# Altium schematic symbol library Schlib1.SchLib: 42 symbols (part 2 of 2)
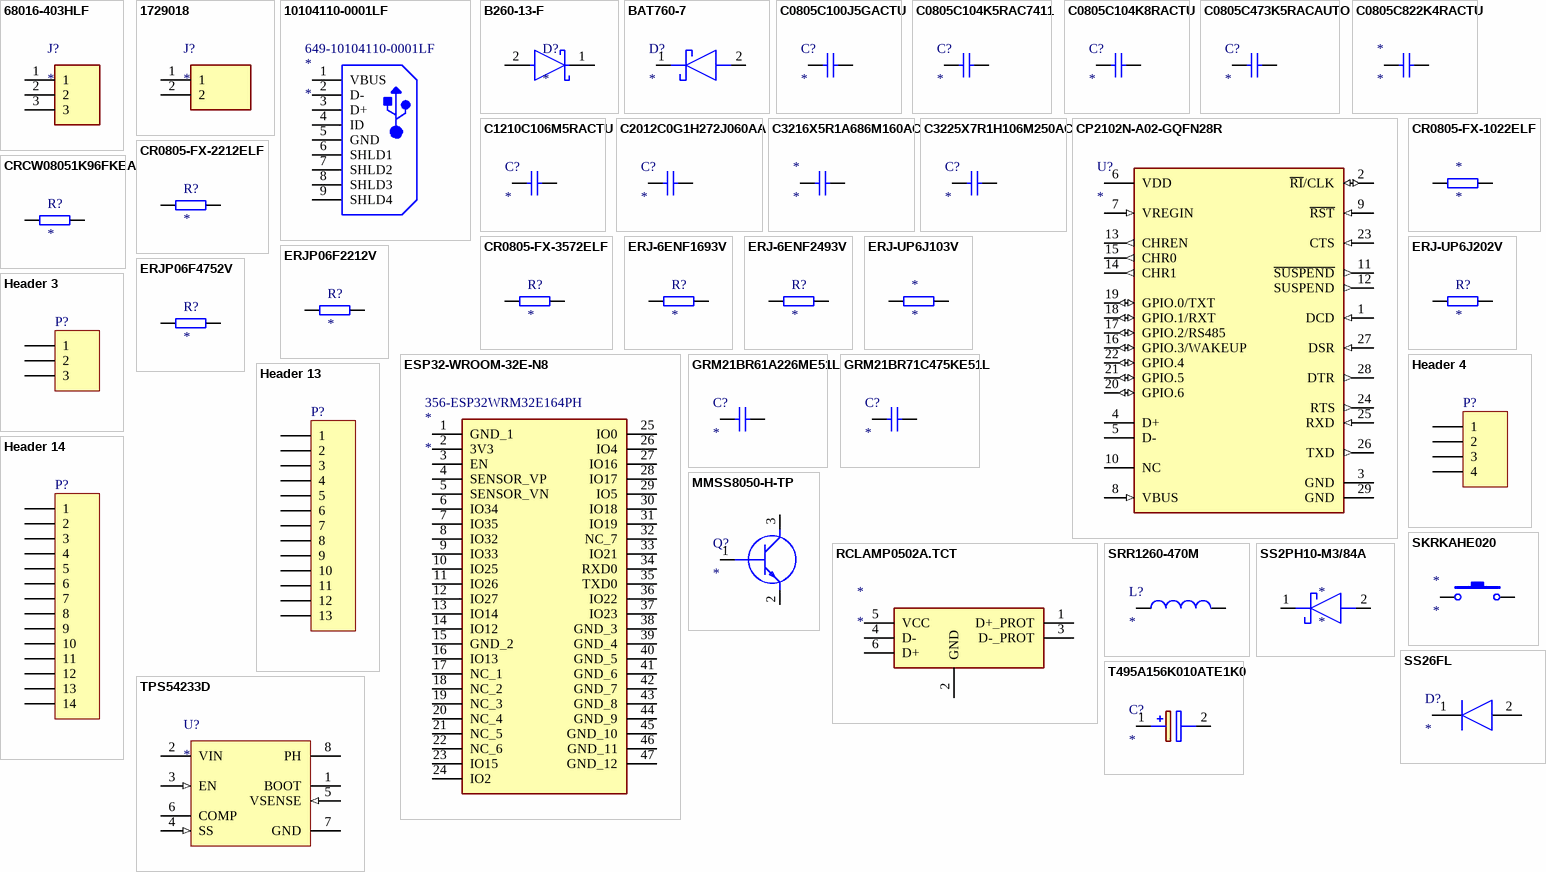
[diagram p2: symbols 68016-403HLF to TPS54233D]

## GRM21BR71C475KE51L
designator C?
Cap Ceramic 4.7uF 16V X7R 10% SMD 0805 125°C Embossed Plastic T/R; Manufacturer: Murata; Manufacturer Part Number: GRM21BR71C475KE51L; Supplier 1: Mouser; RoHS: Yes; Category: Ceramic Capacitors; Stock 1: 388295; Pricing 1: 1=0,19000, 10=0,13400, 50=0,13400, 100=0,06400, 500=0,04500, 1000=0,03700, 3000=0,03500, 6000=0,03300, 10000=0,03300 (USD); Case/Package: 0805; Capacitance: 4.7uF; Tolerance: 10%; Dielectric: X7R; Voltage Rating (DC): 16V; Length: 2mm; Width: 1.25mm; Thickness: 1.25mm; RoHS Compliant: Yes; ComponentLink1URL: http://www.farnell.com/datasheets/2189142.pdf?src-supplier=Farnell; ComponentLink1Description: http://www.farnell.com/datasheets/2189142.pdf?src-supplier=Farnell; ComponentLink2URL: http://search.murata.co.jp/Ceramy/image/img/A01X/G101/ENG/GRM21BR71C475KE51-01.pdf?src-supplier=Digi-Key; ComponentLink2Description: http://search.murata.co.jp/Ceramy/image/img/A01X/G101/ENG/GRM21BR71C475KE51-01.pdf?src-supplier=Digi-Key; Supplier Part Number 1: 81-GRM21BR71C475KE1L
footprint FP-GRM21B-0_15-IPC_A
footprint FP-GRM21B-0_15-IPC_B
footprint FP-GRM21B-0_15-IPC_C
footprint FP-GRM21B-0_15-MFG
pins: 1, 2

## Header 3
designator P?
Header, 3-Pin; LatestRevisionDate: 17-Jul-2002; LatestRevisionNote: Re-released for DXP Platform.; Publisher: Altium Limited
footprint HDR1X3 (Connector; Header; 3 Position)
pins: 1, 2, 3

## Header 4
designator P?
Header, 4-Pin; LatestRevisionDate: 17-Jul-2002; LatestRevisionNote: Re-released for DXP Platform.; Publisher: Altium Limited
footprint HDR1X4 (Connector; Header; 4 Position)
pins: 1, 2, 3, 4

## Header 13
designator P?
Header, 13-Pin; LatestRevisionDate: 17-Jul-2002; LatestRevisionNote: Re-released for DXP Platform.; Publisher: Altium Limited
footprint HDR1X13 (Connector; Header; 13 Position)
pins: 1, 2, 3, 4, 5, 6, 7, 8, 9, 10, 11, 12, 13

## Header 14
designator P?
Header, 14-Pin; LatestRevisionDate: 17-Jul-2002; LatestRevisionNote: Re-released for DXP Platform.; Publisher: Altium Limited
footprint HDR1X14 (Connector; Header; 14 Position)
pins: 1, 2, 3, 4, 5, 6, 7, 8, 9, 10, 11, 12, 13, 14

## MMSS8050-H-TP
designator Q?
NPN Ic=1.5A Vceo=25V hfe=120~350 fT=100MHz; Manufacturer: MCC; Manufacturer Part Number: MMSS8050-H-TP; hFE Min: 120; Max Power Dissipation: 625mW; Collector Emitter Voltage (VCEO): 500mV; Collector Base Voltage (VCBO): 40V; Emitter Base Voltage (VEBO): 5V; Max Collector Current: 1.5A; Collector Emitter Breakdown Voltage: 25V; Transition Frequency: 100MHz; Element Configuration: Single; Supplier 1: Mouser; RoHS: Yes; Category: BJTs; Stock 1: 426; Pricing 1: 1=0,21000, 10=0,17100, 50=0,17100, 100=0,09100, 500=0,06000, 1000=0,04100, 3000=0,03100, 10000=0,03100 (USD); Mount: Surface Mount; Case/Package: SOT-23; Number of Pins: 3; Min Operating Temperature: -55°C; Max Operating Temperature: 150°C; Packaging: Tape and Reel; Package Quantity: 3000; Polarity: NPN; Collector Emitter Saturation Voltage: 500mV; Max Breakdown Voltage: 25V; Gain Bandwidth Product: 100MHz; Collector-emitter Voltage-Max: 500mV; Series: -; Lead Free: Lead Free; RoHS Compliant: Yes; ComponentLink1URL: https://datasheet.ciiva.com/16291/mmss8050-255048-16291447.pdf?src-supplier=Mouser; ComponentLink1Description: https://datasheet.ciiva.com/16291/mmss8050-255048-16291447.pdf?src-supplier=Mouser; ComponentLink2URL: https://datasheet.ciiva.com/972/mmss8050sot-23-972894.pdf?src-supplier=Digi-Key; ComponentLink2Description: https://datasheet.ciiva.com/972/mmss8050sot-23-972894.pdf?src-supplier=Digi-Key; ComponentLink3URL: https://datasheet.ciiva.com/972/mmss8050sot-23-972895.pdf?src-supplier=Digi-Key; ComponentLink3Description: https://datasheet.ciiva.com/972/mmss8050sot-23-972895.pdf?src-supplier=Digi-Key; ComponentLink4URL: https://datasheet.ciiva.com/972/mmss8050sot-23-972893.pdf?src-supplier=Digi-Key; ComponentLink4Description: https://datasheet.ciiva.com/972/mmss8050sot-23-972893.pdf?src-supplier=Digi-Key; Supplier Part Number 1: 833-MMSS8050-H-TP
footprint SI2305TP
pins: 1 B, 2 E, 3 C

## RCLAMP0502A.TCT
designator *
TVS二极管 5V IPPM=3A 50W 单向; Manufacturer: Semtech; Manufacturer Part Number: RCLAMP0502A.TCT; Direction: Unidirectional; Capacitance: 0.9pF; Number of Channels: 2; Reverse Breakdown Voltage: 6V; Number of Elements: 1; Clamping Voltage: 18V; Power Line Protection: Yes; Peak Pulse Current: 3A; Test Current: 1mA; Max Reverse Leakage Current: 1uA; Element Configuration: Single; Supplier 1: Mouser; RoHS: Yes; Category: TVS Diodes; Stock 1: 213169; Pricing 1: 1=0,91000, 10=0,79900, 50=0,79900, 100=0,61300, 1000=0,38800, 10000=0,35000 (USD); Mount: Surface Mount; Case/Package: SC; Number of Pins: 6; Min Operating Temperature: -55°C; Max Operating Temperature: 125°C; Packaging: Tape and Reel; Number of Bidirectional Channels: 2; Reverse Standoff Voltage: 5V; Min Breakdown Voltage: 6V; Peak Pulse Power: 50W; Polarity: Unidirectional; Max Breakdown Voltage: 6V; ESD Protection: Yes; Max Power Dissipation: 50W; Leakage Current: 1uA; Current: 3A; Voltage: 5V; Series: RailClamp®; Clamping Voltage-Max: 18V; Length: 1.6mm; Width: 1.2mm; Height: 0.6mm; Radiation Hardening: No; Lead Free: Lead Free; RoHS Compliant: Yes; ComponentLink1URL: https://datasheet.ciiva.com/17052/0900766b80d896e8-17052765.pdf?src-supplier=Allied+Electronics; ComponentLink1Description: https://datasheet.ciiva.com/17052/0900766b80d896e8-17052765.pdf?src-supplier=Allied+Electronics; ComponentLink2URL: https://datasheet.ciiva.com/16208/rclamp0502a-16208898.pdf?src-supplier=Future+Electronics; ComponentLink2Description: https://datasheet.ciiva.com/16208/rclamp0502a-16208898.pdf?src-supplier=Future+Electronics; ComponentLink3URL: https://datasheet.ciiva.com/18065/getdatasheetpartid-185280-18065939.pdf?src-supplier=Verical; ComponentLink3Description: https://datasheet.ciiva.com/18065/getdatasheetpartid-185280-18065939.pdf?src-supplier=Verical; ComponentLink4URL: https://datasheet.ciiva.com/338/rclamp0502a-338509.pdf?src-supplier=Digi-Key; ComponentLink4Description: https://datasheet.ciiva.com/338/rclamp0502a-338509.pdf?src-supplier=Digi-Key; ComponentLink5URL: https://datasheet.ciiva.com/338/rclamp0502a-338510.pdf?src-supplier=Digi-Key; ComponentLink5Description: https://datasheet.ciiva.com/338/rclamp0502a-338510.pdf?src-supplier=Digi-Key; ComponentLink6URL: https://datasheet.ciiva.com/338/rclamp0502a-338508.pdf?src-supplier=Digi-Key; ComponentLink6Description: https://datasheet.ciiva.com/338/rclamp0502a-338508.pdf?src-supplier=Digi-Key; Supplier Part Number 1: 947-RCLAMP0502A.TCT
footprint SOTFL50P162X60-6N
pins: 1 D+_PROT, 2 GND, 3 D-_PROT, 4 D-, 5 VCC, 6 D+

## SKRKAHE020
designator *
Switch Tactile N.O. SPST Round Button Gull Wing 0.05A 12VDC 0.98N SMD T/R; Manufacturer: Alps Electric; Manufacturer Part Number: SKRKAHE020; Supplier 1: Mouser; RoHS: Yes; Category: Tactile Switches; Stock 1: 28067; Pricing 1: 1=0,76000, 10=0,67100, 50=0,60600, 100=0,57700, 1000=0,46700, 10000=0,45000 (USD); RoHS Compliant: Yes; Supplier Part Number 1: 688-SKRKAHE010
footprint SKRKAEE020
pins: 1, 2

## SRR1260-470M
designator L?
Inductor Power Shielded Wirewound 47uH 20% 100KHz 22Q-Factor Ferrite 2.6A 86mOhm DCR T/R; Manufacturer: Bourns; Manufacturer Part Number: SRR1260-470M; Material: Steel; Self Resonant Frequency: 7.63MHz; Saturation Current: 2.5A; DC Resistance (DCR): 86mR; Q Factor: 22; Supplier 1: Mouser; RoHS: Yes; Category: Fixed Inductors; Stock 1: 4692; Pricing 1: 1=1,36000, 10=1,02000, 50=1,02000, 100=0,91300, 1000=0,69900, 10000=0,52900 (USD); Mount: Surface Mount; Case/Package: 1260; Core Material: Ferrite; Min Operating Temperature: -40°C; Max Operating Temperature: 125°C; Tolerance: 20%; Inductance: 47uH; Max DC Current: 2.6A; Series: SRR1260; Inductance Tolerance: 20%; Packaging: Tape and Reel; Package Quantity: 600; Current Rating: 2.6A; Shielding: Shielded; Test Frequency: 100kHz; Termination: SMD/SMT; RMS Current (Irms): 2.6A; Resistor Type: Wirewound; DC Current: 2.6A; Frequency: 7.63MHz; Resistance: 86MR; Sample Rate (Hz): 100kHz; Length: 12.5mm; Width: 12.5mm; Height: 6mm; Depth: 12.8mm; Height - Seated (Max): 0.256inch; Radiation Hardening: No; RoHS Compliant: Yes; REACH SVHC: No SVHC; Military Standard: Not; ComponentLink1URL: https://datasheet.ciiva.com/11799/0900766b80defded-11799944.pdf?src-supplier=RSComponents; ComponentLink1Description: https://datasheet.ciiva.com/11799/0900766b80defded-11799944.pdf?src-supplier=RSComponents; ComponentLink2URL: https://datasheet.ciiva.com/1062/srr1260-1062578.pdf?src-supplier=Digi-Key; ComponentLink2Description: https://datasheet.ciiva.com/1062/srr1260-1062578.pdf?src-supplier=Digi-Key; ComponentLink3URL: https://datasheet.ciiva.com/1062/srr1260-1062579.pdf?src-supplier=Digi-Key; ComponentLink3Description: https://datasheet.ciiva.com/1062/srr1260-1062579.pdf?src-supplier=Digi-Key; ComponentLink4URL: https://datasheet.ciiva.com/1062/srr1260-1062580.pdf?src-supplier=Digi-Key; ComponentLink4Description: https://datasheet.ciiva.com/1062/srr1260-1062580.pdf?src-supplier=Digi-Key; ComponentLink5URL: https://datasheet.ciiva.com/8517/srr1260-8517158.pdf?src-supplier=Avnet; ComponentLink5Description: https://datasheet.ciiva.com/8517/srr1260-8517158.pdf?src-supplier=Avnet; ComponentLink6URL: https://datasheet.ciiva.com/17111/70277056-17111735.pdf?src-supplier=Allied+Electronics; ComponentLink6Description: https://datasheet.ciiva.com/17111/70277056-17111735.pdf?src-supplier=Allied+Electronics; ComponentLink7URL: https://datasheet.ciiva.com/46384/1430852-46384136.pdf?src-supplier=Element14; ComponentLink7Description: https://datasheet.ciiva.com/46384/1430852-46384136.pdf?src-supplier=Element14; ComponentLink8URL: https://datasheet.ciiva.com/6161/1430852-6161177.pdf?src-supplier=Farnell; ComponentLink8Description: https://datasheet.ciiva.com/6161/1430852-6161177.pdf?src-supplier=Farnell; ComponentLink9URL: https://datasheet.ciiva.com/7849/1430852-7849786.pdf?src-supplier=Element14; ComponentLink9Description: https://datasheet.ciiva.com/7849/1430852-7849786.pdf?src-supplier=Element14; ComponentLink10URL: https://datasheet.ciiva.com/48684/srr1260-48684894.pdf?src-supplier=Avnet; ComponentLink10Description: https://datasheet.ciiva.com/48684/srr1260-48684894.pdf?src-supplier=Avnet; ComponentLink11URL: https://datasheet.ciiva.com/7307/1914016-7307759.pdf?src-supplier=Newark; ComponentLink11Description: https://datasheet.ciiva.com/7307/1914016-7307759.pdf?src-supplier=Newark; ComponentLink12URL: https://datasheet.ciiva.com/48690/001056651-da-01-en-mag-abge-l-ind-srr1260-470m-47uh-2-6a-48690779.pdf?src-supplier=Conrad; ComponentLink12Description: https://datasheet.ciiva.com/48690/001056651-da-01-en-mag-abge-l-ind-srr1260-470m-47uh-2-6a-48690779.pdf?src-supplier=Conrad; Supplier Part Number 1: 652-SRR1260-470M
footprint SRR1260470M
pins: 1, 2

## SS2PH10-M3/84A
designator *
DIODE SCHOTTKY 100V 2A DO220AA; Manufacturer: Vishay; Manufacturer Part Number: SS2PH10-M3/84A; Max Reverse Current: 1uA; Peak Non-Repetitive Surge Current: 50A; Element Configuration: Single; Forward Voltage: 800mV; Supplier 1: Mouser; RoHS: Yes; Category: Rectifier Diodes; Stock 1: 5780; Pricing 1: 1=0,48000, 10=0,39800, 50=0,39800, 100=0,27100, 1000=0,15300, 10000=0,13900 (USD); Mount: Surface Mount; Case/Package: DO-220AA; Number of Pins: 2; Contact Plating: Tin,Matte; Min Operating Temperature: -55°C; Max Operating Temperature: 175°C; Packaging: Tape and Reel; Forward Current: 2A; Package Quantity: 1; Average Rectified Current: 2A; Max Repetitive Reverse Voltage (Vrrm): 100V; Max Reverse Voltage (DC): 100V; Max Surge Current: 50A; Max Forward Surge Current (Ifsm): 50A; Series: eSMP®; Radiation Hardening: No; REACH SVHC: Unknown; RoHS Compliant: Yes; Lead Free: Lead Free; ComponentLink1URL: https://datasheet.ciiva.com/18567/ss2ph920&20ss2ph10-18567489.pdf?src-supplier=Digi-Key; ComponentLink1Description: https://datasheet.ciiva.com/18567/ss2ph920&20ss2ph10-18567489.pdf?src-supplier=Digi-Key; ComponentLink2URL: https://datasheet.ciiva.com/7962/ss2ph9-7962425.pdf?src-supplier=Element14; ComponentLink2Description: https://datasheet.ciiva.com/7962/ss2ph9-7962425.pdf?src-supplier=Element14; ComponentLink3URL: https://datasheet.ciiva.com/22695/1911775-22695932.pdf?src-supplier=Element14; ComponentLink3Description: https://datasheet.ciiva.com/22695/1911775-22695932.pdf?src-supplier=Element14; ComponentLink4URL: https://datasheet.ciiva.com/8289/ss2ph9-8289129.pdf?src-supplier=Avnet; ComponentLink4Description: https://datasheet.ciiva.com/8289/ss2ph9-8289129.pdf?src-supplier=Avnet; ComponentLink5URL: https://datasheet.ciiva.com/13948/ss2ph9-13948536.pdf?src-supplier=Digi-Key; ComponentLink5Description: https://datasheet.ciiva.com/13948/ss2ph9-13948536.pdf?src-supplier=Digi-Key; ComponentLink6URL: https://datasheet.ciiva.com/15045/ss2ph9ss2ph10-15045638.pdf?src-supplier=Digi-Key; ComponentLink6Description: https://datasheet.ciiva.com/15045/ss2ph9ss2ph10-15045638.pdf?src-supplier=Digi-Key; Supplier Part Number 1: 625-SS2PH10-M3
footprint DO-220AA
pins: 1 K, 2 A

## SS26FL
designator D?
Diode Schottky Barrier Rectifier 60V 2A 2-Pin SOD-123F T/R; Manufacturer: ON Semiconductor / Fairchild; Manufacturer Part Number: SS26FL; Reverse Recovery Time: 8.26ns; Element Configuration: Single; Max Forward Surge Current (Ifsm): 50A; Supplier 1: Mouser; RoHS: Yes; Category: Rectifier Diodes; Stock 1: 8320; Pricing 1: 1=0,38000, 10=0,31100, 50=0,31100, 100=0,21200, 1000=0,11900, 10000=0,09500 (USD); Mount: Surface Mount; Case/Package: SOD; Weight: 0.0276g; Packaging: Tape and Reel; Average Rectified Current: 2A; Max Repetitive Reverse Voltage (Vrrm): 60V; Max Reverse Voltage (DC): 60V; RoHS Compliant: Yes; ComponentLink1URL: http://www.farnell.com/datasheets/2552652.pdf?src-supplier=Farnell; ComponentLink1Description: http://www.farnell.com/datasheets/2552652.pdf?src-supplier=Farnell; ComponentLink2URL: http://www.farnell.com/datasheets/2552652.pdf?src-supplier=Element14; ComponentLink2Description: http://www.farnell.com/datasheets/2552652.pdf?src-supplier=Element14; ComponentLink3URL: https://www.fairchildsemi.com/datasheets/SS/SS24FL.pdf?src-supplier=Digi-Key; ComponentLink3Description: https://www.fairchildsemi.com/datasheets/SS/SS24FL.pdf?src-supplier=Digi-Key; ComponentLink4URL: http://www.farnell.com/datasheets/2552652.pdf?src-supplier=Newark; ComponentLink4Description: http://www.farnell.com/datasheets/2552652.pdf?src-supplier=Newark; Supplier Part Number 1: 512-SS26FL
footprint SODFL3617X108N
pins: 1 K, 2 A

## T495A156K010ATE1K0
designator C?
Cap Tant Solid 15uF 10V A CASE 10% (3.2 X 1.6 X 1.6mm) Inward L SMD 3216-18 1 Ohm 125C Automotive T/R; Manufacturer: KEMET; Manufacturer Part Number: T495A156K010ATE1K0; ESR (Equivalent Series Resistance): 1R; Life (Hours): 2000Hour; Supplier 1: Mouser; RoHS: Yes; Category: Tantalum Capacitors; Stock 1: 278; Pricing 1: 1=0,73000, 10=0,59100, 50=0,44700, 100=0,38900, 1000=0,30900, 10000=0,28100 (USD); Mount: Surface Mount; Case/Package: 1206; Case Code (Metric): 3216; Case Code (Imperial): 1206; Min Operating Temperature: -55°C; Max Operating Temperature: 125°C; Package Quantity: 2000; Packaging: Tape and Reel; Capacitance: 15uF; Tolerance: 10%; Voltage Rating: 10V; Features: General Purpose; Length: 0.126inch; Width: 0.063inch; Height - Seated (Max): 0.071inch; RoHS Compliant: Yes; ComponentLink1URL: http://www.kemet.com/docfinder?Partnumber=T495A156K010ATE1K0&src-supplier=Digi-Key; ComponentLink1Description: http://www.kemet.com/docfinder?Partnumber=T495A156K010ATE1K0&src-supplier=Digi-Key; ComponentLink2URL: https://api.kemet.com/component-edge/download/datasheet/T495A156K010ATE1K0.pdf?src-supplier=Digi-Key; ComponentLink2Description: https://api.kemet.com/component-edge/download/datasheet/T495A156K010ATE1K0.pdf?src-supplier=Digi-Key; Supplier Part Number 1: 80-T495A156K10ATE1K0
footprint CAPPM3216X180N
pins: 1 +, 2 -

## TPS54233D
designator U?
3.5 to 28V Input, 2A, 300kHz Step-Down Converter with Eco-mode 8-SOIC -40 to 150; Manufacturer: Texas Instruments; Manufacturer Part Number: TPS54233D; Output Voltage: 25V; Number of Outputs: 1; Min Input Voltage: 3.5V; Min Output Voltage: 800mV; Synchronous Rectifier: No; Quiescent Current: 110uA; Output Type: Adjustable; Output Configuration: Positive; Supplier 1: Mouser; RoHS: Yes; Category: Voltage Regulators - Switching; Stock 1: 4197; Pricing 1: 1=2,13000, 10=1,92000, 25=1,81000, 50=1,81000, 100=1,54000, 250=1,44000, 375=1,26000, 1000=1,26000, 1125=1,05000, 10000=1,05000 (USD); Case/Package: D; Number of Pins: 8; Weight: 0.002561oz; Contact Plating: Gold; Min Operating Temperature: -40°C; Max Operating Temperature: 150°C; Packaging: Rail/Tube; Switching Frequency: 300kHz; Output Current: 2A; Package Quantity: 75; Max Output Current: 2A; Max Input Voltage: 28V; Max Output Voltage: 25V; Operating Supply Voltage: 28V; Series: SWIFT™, Eco-Mode™; Length: 4.9mm; Width: 3.91mm; Height: 1.58mm; Radiation Hardening: No; Lead Free: Lead Free; RoHS Compliant: Yes; REACH SVHC: No SVHC; ComponentLink1URL: https://datasheet.ciiva.com/2035/tps54233-2035392.pdf?src-supplier=Digi-Key; ComponentLink1Description: https://datasheet.ciiva.com/2035/tps54233-2035392.pdf?src-supplier=Digi-Key; ComponentLink2URL: https://datasheet.ciiva.com/4118/47079537s8453800n7713-4118932.pdf?src-supplier=Arrow+Electronics; ComponentLink2Description: https://datasheet.ciiva.com/4118/47079537s8453800n7713-4118932.pdf?src-supplier=Arrow+Electronics; Supplier Part Number 1: 595-TPS54233D
footprint D0008A_L (SOIC, 8-Leads, Body 5x4mm, Pitch 1.27mm, IPC High Density)
footprint D0008A_M (SOIC, 8-Leads, Body 5x4mm, Pitch 1.27mm, IPC Low Density)
footprint D0008A_N (SOIC, 8-Leads, Body 5x4mm, Pitch 1.27mm, IPC Medium Density)
pins: 1 BOOT "A 0.1 uF bootstrap capacitor is required between BOOT and PH. If the voltage on this capacitor falls below the minimum requirement, the high-side MOSFET is forced to switch off until the capacitor is refreshed.", 2 VIN (power) "Input supply voltage, 3.5 V to 28 V.", 3 EN (in) "Enable pin. Pull below 1.25V to disable. Float to enable. Programming the input undervoltage lockout with two resistors is recommended.", 4 SS (in) "Slow start pin. An external capacitor connected to this pin sets the output rise time.", 5 VSENSE (in) "Inverting node of the gm error amplifier", 6 COMP "Error amplifier output, and input to the PWM comparator. Connect frequency compensation components to this pin.", 7 GND (power) "Ground.", 8 PH (power) "The source of the internal high-side power MOSFET."

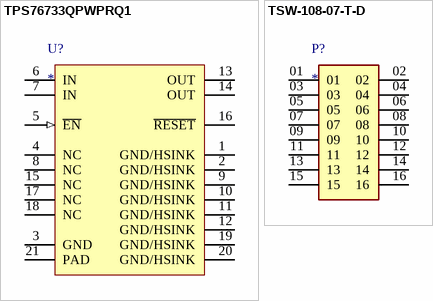
[diagram p1: symbols TPS76733QPWPRQ1 to TSW-108-07-T-D]

## TPS76733QPWPRQ1
designator U?
Automotive 1-A, 10-V, low-dropout voltage regulator with enable 20-HTSSOP -40 to 125; Manufacturer: Texas Instruments; Manufacturer Part Number: TPS76733QPWPRQ1; Max Power Dissipation: 7.2W; Dropout Voltage: 350mV; Output Current: 1A; Output Voltage: 3.3V; Number of Outputs: 1; Max Input Voltage: 10V; Min Input Voltage: 2.7V; Input Bias Current: 85uA; Polarity: Positive; Quiescent Current: 80uA; Accuracy: 2%; Output Type: Fixed; Supplier 1: Mouser; RoHS: Yes; Category: Voltage Regulators - Linear; Stock 1: 472; Pricing 1: 1=5,02000, 10=4,51000, 50=4,26000, 100=3,70000, 1000=2,75000, 10000=2,75000 (USD); Case/Package: HTSSOP; Number of Pins: 20; Min Operating Temperature: -40°C; Max Operating Temperature: 125°C; Packaging: Tape and Reel; Package Quantity: 1; Max Output Current: 1A; Number of Regulators: 1; Power Dissipation: 7.2W; Min Output Voltage: 3.3V; Output Voltage Accuracy: 2%; Max Output Voltage: 3.3V; Series: Automotive, AEC-Q100; Radiation Hardening: No; REACH SVHC: Unknown; Lead Free: Lead Free; RoHS Compliant: Yes; ComponentLink1URL: https://datasheet.ciiva.com/2046/tps76715-q1-2046224.pdf?src-supplier=Digi-Key; ComponentLink1Description: https://datasheet.ciiva.com/2046/tps76715-q1-2046224.pdf?src-supplier=Digi-Key; ComponentLink2URL: https://datasheet.ciiva.com/14275/tps76733-q1-14275667.pdf?src-supplier=Avnet; ComponentLink2Description: https://datasheet.ciiva.com/14275/tps76733-q1-14275667.pdf?src-supplier=Avnet; ComponentLink3URL: https://datasheet.ciiva.com/2046/tps76715-q1-2046223.pdf?src-supplier=Digi-Key; ComponentLink3Description: https://datasheet.ciiva.com/2046/tps76715-q1-2046223.pdf?src-supplier=Digi-Key; ComponentLink4URL: https://datasheet.ciiva.com/2046/tps76715-q1-2046222.pdf?src-supplier=Digi-Key; ComponentLink4Description: https://datasheet.ciiva.com/2046/tps76715-q1-2046222.pdf?src-supplier=Digi-Key; Supplier Part Number 1: 595-TPS76733QPWPRQ1
footprint PWP0020L_L (SOP, 20-Leads, Body 6.6x4.5mm, Pitch 0.65mm, Thermal Pad 3.38x2.4mm, IPC High Density)
footprint PWP0020L_M (SOP, 20-Leads, Body 6.6x4.5mm, Pitch 0.65mm, Thermal Pad 3.38x2.4mm, IPC Low Density)
footprint PWP0020L_N (SOP, 20-Leads, Body 6.6x4.5mm, Pitch 0.65mm, Thermal Pad 3.38x2.4mm, IPC Medium Density)
pins: 1 GND/HSINK (power) "Ground/heatsink", 2 GND/HSINK (power) "Ground/heatsink", 3 GND (power) "Regulator ground", 4 NC "No connect", 5 ~{EN} (in) "Enable", 6 IN (power) "Input voltage", 7 IN (power) "Input voltage", 8 NC "No connect", 9 GND/HSINK (power) "Ground/heatsink", 10 GND/HSINK (power) "Ground/heatsink", 11 GND/HSINK (power) "Ground/heatsink", 12 GND/HSINK (power) "Ground/heatsink", 13 OUT (power) "Regulated output voltage", 14 OUT (power) "Regulated output voltage", 15 NC "No connect", 16 ~{RESET} (hiz) "Reset", 17 NC "No connect", 18 NC "No connect", 19 GND/HSINK (power) "Ground/heatsink", 20 GND/HSINK (power) "Ground/heatsink", 21 PAD "Exposed Thermal Pad"

## TSW-108-07-T-D
designator P?
Conn Unshrouded Header HDR 16 POS 2.54mm Solder ST Thru-Hole Bulk; Manufacturer: Samtec; Manufacturer Part Number: TSW-108-07-T-D; Gender: Male; Number of Contacts: 16; Max Current Rating: 7.6A; Max Voltage Rating (AC): 550V; Connector Type: Male Pin; Row Spacing: 0.1inch; Supplier 1: Mouser; RoHS: Yes; Category: Connectors; Stock 1: 9900; Pricing 1: 1=1,38000, 10=1,24000, 50=1,24000, 100=1,07000, 500=0,89200, 1000=0,76400, 2500=0,70700, 5000=0,67800, 10000=0,66200, 25000=0,64700 (USD); Mount: Through Hole; Contact Material: Bronze; Contact Plating: Tin; Housing Material: Polyester; Housing Color: Black; Color: Black; Min Operating Temperature: -55°C; Max Operating Temperature: 105°C; Number of Rows: 2; Termination: Solder; Packaging: Bulk; Orientation: Straight; Number of Positions: 16; Package Quantity: 1; Length: 20.32mm; Width: 5.08mm; Pitch: 2.54mm; Depth: 5.08mm; Contact Mating Length: 0.23inch; Radiation Hardening: No; REACH SVHC: No SVHC; Lead Free: Lead Free; ComponentLink1URL: https://datasheet.ciiva.com/6886/tsw-xxx-xx-xxx-x-xx-xxx-mkt-6886341.pdf?src-supplier=Digi-Key; ComponentLink1Description: https://datasheet.ciiva.com/6886/tsw-xxx-xx-xxx-x-xx-xxx-mkt-6886341.pdf?src-supplier=Digi-Key; ComponentLink2URL: https://datasheet.ciiva.com/10267/htsw-th-10267287.pdf?src-supplier=Avnet; ComponentLink2Description: https://datasheet.ciiva.com/10267/htsw-th-10267287.pdf?src-supplier=Avnet; ComponentLink3URL: https://datasheet.ciiva.com/10265/htsw-th-10265257.pdf?src-supplier=Avnet; ComponentLink3Description: https://datasheet.ciiva.com/10265/htsw-th-10265257.pdf?src-supplier=Avnet; Supplier Part Number 1: 200-TSW10807TD
footprint SAMTEC_TSW-108-07-T-D
pins: 01, 02, 03, 04, 05, 06, 07, 08, 09, 10, 11, 12, 13, 14, 15, 16